# Altium footprint library WANGYU92100PcbLib.PcbLib: 392 footprints (part 20 of 25)
Each footprint in its own frame and in the unit in brackets; x right, y up, seen from the top. Pads: shape width x height; smd on the part's side, far side on the other; paste and mask are expansions set on the pad; w line width, h text height; cw(c..) or ccw(c..) is an arc to the next point about the centre after c.
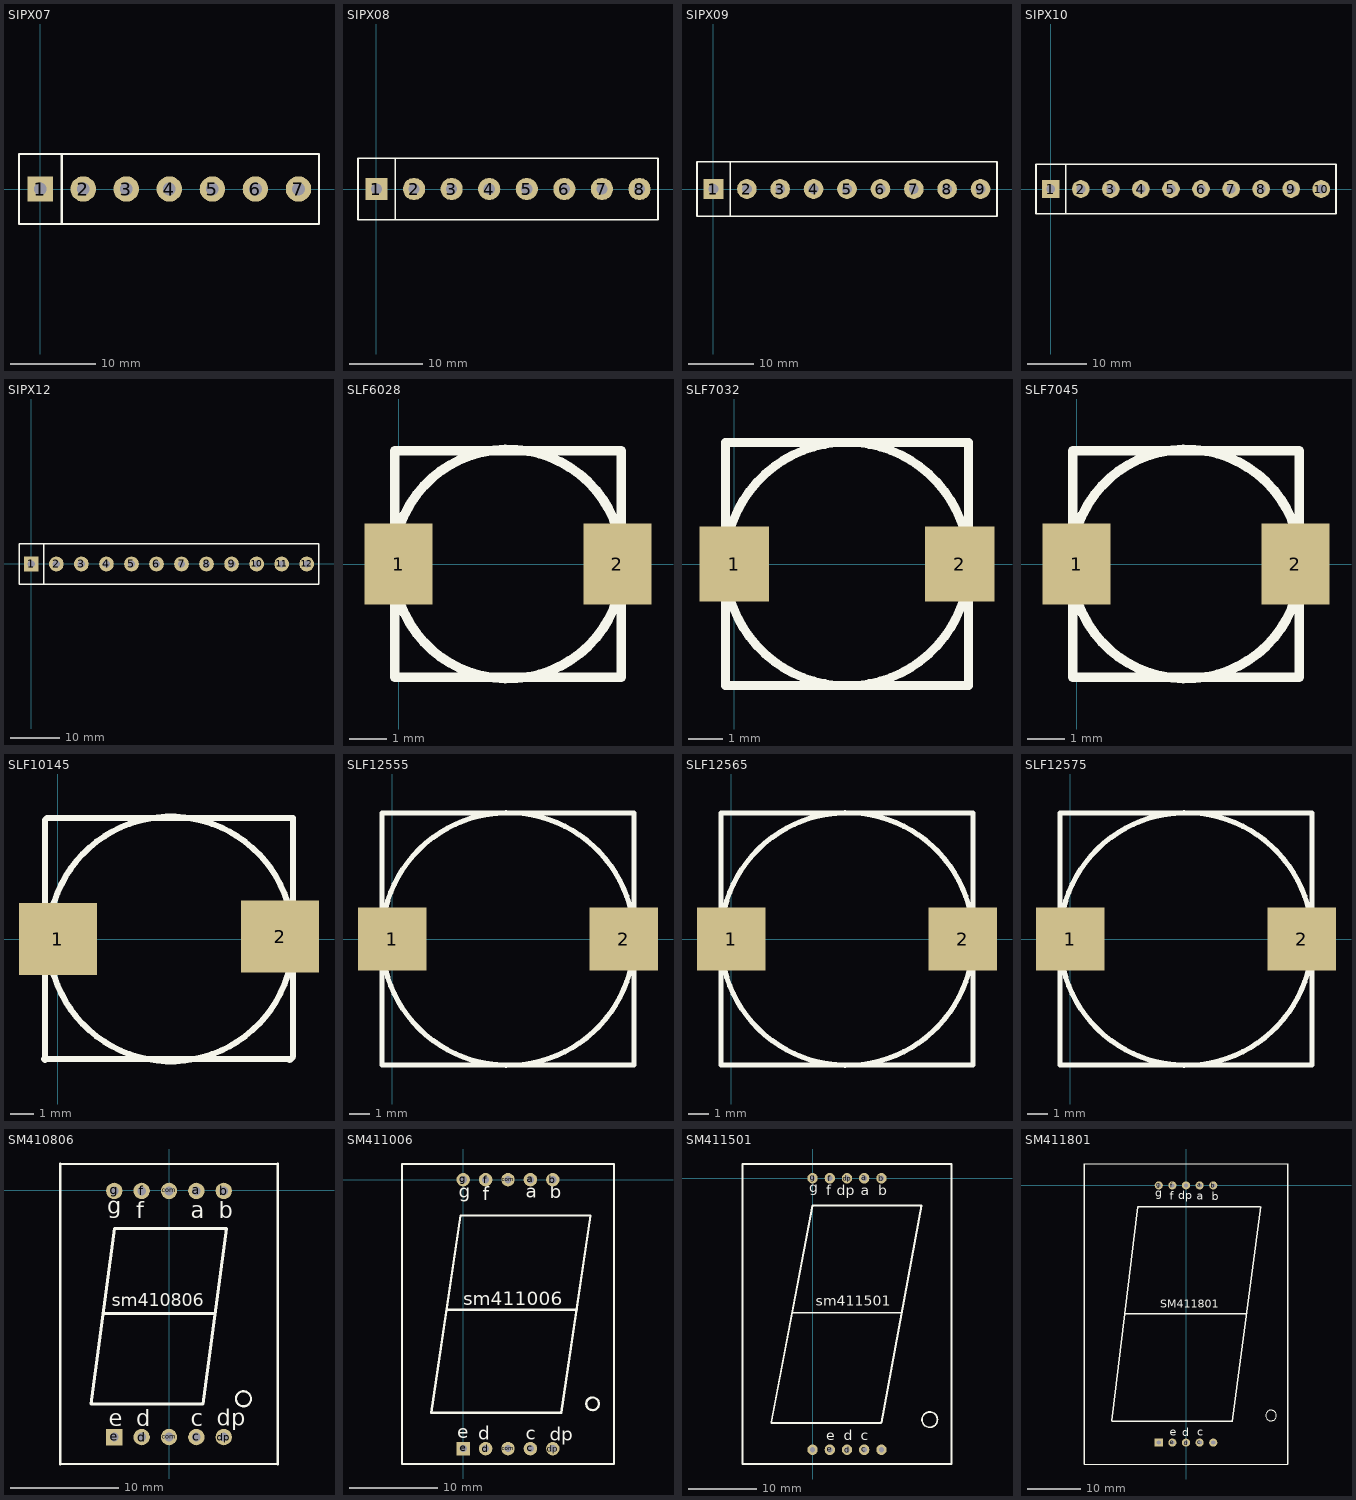
[diagram p19: the footprints below, top view; thin cyan lines are the x and y axes]

## SIPX07 [mm]
pads (7):
  rect 3x3 hole 1.5: 1(0,0)
  round 3 hole 1.5: 2(5.08,0) 3(10.16,0) 4(15.24,0) 5(20.32,0) 6(25.4,0) 7(30.48,0)
Top Overlay:
  lines w0.254: 2.54,-4.15 2.54,4.15 ; -2.5,-4.15 32.9,-4.15 32.9,4.15 -2.5,4.15 -2.5,-4.15

## SIPX08 [mm]
pads (8):
  rect 3x3 hole 1.5: 1(0,0)
  round 3 hole 1.5: 2(5.08,0) 3(10.16,0) 4(15.24,0) 5(20.32,0) 6(25.4,0) 7(30.48,0) 8(35.56,0)
Top Overlay:
  lines w0.254: 2.54,-4.15 2.54,4.15 ; -2.5,-4.15 38.06,-4.15 38.06,4.15 -2.5,4.15 -2.5,-4.15

## SIPX09 [mm]
pads (9):
  rect 3x3 hole 1.5: 1(0,0)
  round 3 hole 1.5: 2(5.08,0) 3(10.16,0) 4(15.24,0) 5(20.32,0) 6(25.4,0) 7(30.48,0) 8(35.56,0) 9(40.64,0)
Top Overlay:
  lines w0.254: 2.54,-4.15 2.54,4.15 ; -2.5,-4.15 -2.5,4.15 43.14,4.15 43.14,-4.15 -2.5,-4.15

## SIPX10 [mm]
pads (10):
  rect 3x3 hole 1.5: 1(0,0)
  round 3 hole 1.5: 2(5.08,0) 3(10.16,0) 4(15.24,0) 5(20.32,0) 6(25.4,0) 7(30.48,0) 8(35.56,0) 9(40.64,0) 10(45.72,0)
Top Overlay:
  lines w0.254: 2.54,-4.15 2.54,4.15 ; -2.5,-4.15 -2.5,4.15 48.22,4.15 48.22,-4.15 -2.5,-4.15

## SIPX12 [mm]
pads (12):
  rect 3x3 hole 1.5: 1(0,0)
  round 3 hole 1.5: 2(5.08,0) 3(10.16,0) 4(15.24,0) 5(20.32,0) 6(25.4,0) 7(30.48,0) 8(35.56,0) 9(40.64,0) 10(45.72,0) 11(50.8,0) 12(55.88,0)
Top Overlay:
  lines w0.254: 2.54,-4.15 2.54,4.15 ; -2.5,-4.15 58.38,-4.15 58.38,4.15 -2.5,4.15 -2.5,-4.15

## SLF6028 [mm]
pads (2):
  rect 1.8x2.15 smd: 1(0,0) 2(5.8,0)
Top Overlay:
  circle w0.254: c2.9,0 r3.041
  lines w0.254: -0.1,-3 -0.1,3 5.9,3 5.9,-3 -0.1,-3

## SLF7032 [mm]
pads (2):
  rect 2x2.15 smd: 1(0,0) 2(6.5,0)
Top Overlay:
  circle w0.254: c3.25,0 r3.509
  lines w0.254: -0.25,-3.5 6.75,-3.5 6.75,3.5 -0.25,3.5 -0.25,-3.5

## SLF7045 [mm]
pads (2):
  rect 1.8x2.15 smd: 1(0,0) 2(5.8,0)
Top Overlay:
  circle w0.254: c2.9,0 r3.041
  lines w0.254: -0.1,-3 5.9,-3 5.9,3 -0.1,3 -0.1,-3

## SLF10145 [mil]
pads (2):
  rect 130x120 smd: 1(0,0) 2(370.08,3.94)
Top Overlay:
  circle w10: c188.04,0 r204.01
  lines w10: -22.96,-200 385.04,-200 ; -21.96,-202 -21.96,0 ; -21.96,-12 -21.96,198 -17.96,202 392.04,202 392.04,-196 ; 392.04,-196 386.04,-202 392.04,-196

## SLF12555 [mm]
pads (2):
  rect 3.4x3.15 smd: 1(0,0) 2(11.5,0)
Top Overlay:
  circle w0.254: c5.75,0 r6.27
  lines w0.254: -0.5,-6.25 -0.5,6.25 12,6.25 12,-6.25 -0.5,-6.25

## SLF12565 [mm]
pads (2):
  rect 3.4x3.15 smd: 1(0,0) 2(11.5,0)
Top Overlay:
  circle w0.254: c5.75,0 r6.27
  lines w0.254: -0.5,-6.25 -0.5,6.25 12,6.25 12,-6.25 -0.5,-6.25

## SLF12575 [mm]
pads (2):
  rect 3.4x3.15 smd: 1(0,0) 2(11.5,0)
Top Overlay:
  circle w0.254: c5.75,0 r6.27
  lines w0.254: -0.5,-6.25 12,-6.25 12,6.25 -0.5,6.25 -0.5,-6.25

## SM410806 [mil]
pads (10):
  round 60 hole 32: a(100,-3) b(200,-3) c(100,-903) com(0,-903) com(0,-3) d(-100,-903) dp(200,-903) f(-100,-3) g(-200,-3)
  rect 60x60 hole 32: e(-200,-903)
Top Overlay:
  circle w8: c272.44,-763 r27.56
  lines w8: -397.64,-1001.42 397.64,-1001.42 ; -397.64,95.42 397.64,95.42 ; -242.2,-447.37 -238.26,-451.31 ; 167.25,-451.31 171.19,-447.37
  lines w10: -397.64,-1001.42 -397.64,95.42 ; -238.26,-451.31 167.25,-451.31 ; 397.64,-1001.42 397.64,95.42 ; -285.5,-782.02 123.94,-782.02 210.56,-140.28 -198.89,-140.28 -285.5,-782.02
  text "sm410806" at -210,-425 h47.24
  text "g" at -225.87,-86.3 h60
  text "f" at -120,-103 h60
  text "a" at 80,-103 h60
  text "b" at 181,-103 h60
  text "e" at -220,-863 h60
  text "dp" at 174,-861 h60
  text "c" at 80,-863 h60
  text "d" at -120,-863 h60

## SM411006 [mil]
pads (10):
  round 60 hole 32: a(299.87,-0.44) b(399.87,-0.44) c(299.87,-1200.52) com(199.87,-1200.52) com(199.87,-0.44) d(99.87,-1200.52) dp(399.87,-1200.52) f(99.87,-0.44) g(-0.13,-0.44)
  rect 60x60 hole 32: e(-0.13,-1200.52)
Top Overlay:
  circle w10: c577.43,-1000.52 r28.28
  lines w10: -72.57,-580.52 507.43,-580.52 ; 199.87,69.48 -272.57,69.48 ; -272.57,69.48 672.32,69.48 ; -272.57,69.48 -272.57,-1269.1 672.32,-1269.1 ; 672.31,-1269.1 672.31,69.48 ; 672.32,-1269.1 672.32,69.48 ; -142.57,-1040.52 437.43,-1040.52 567.43,-160.52 -12.57,-160.52 -142.57,-1040.52
  text "e" at -26,-1154 h60
  text "g" at -20,-80 h60
  text "f" at 88,-92 h60
  text "a" at 280,-82 h60
  text "b" at 386,-84 h60
  text "dp" at 386,-1166 h60
  text "c" at 278,-1160 h60
  text "d" at 68,-1162 h60
  text "sm411006" at 0,-560 h60

## SM411501 [mil]
pads (10):
  round 60 hole 31.5: a(300,0) b(400,0) c(300,-1574.8) com(0,-1574.8) com(400,-1574.8) d(200,-1574.8) dp(200,0) e(100,-1574.8) f(100,0) g(0,0)
Top Overlay:
  circle w10: c680,-1400 r44.72
  lines w10: -240.07,-1417.32 0,-157.48 632.22,-157.48 400,-1417.32 ; -240,-1420 397.32,-1420 ; -112.99,-780 520,-780 ; -406.3,-1657.48 806.3,-1657.48 806.3,82.68 -406.3,82.68 -406.3,-1657.48
  text "sm411501" at 20,-740 h60
  text "b" at 380,-100 h60
  text "a" at 280,-100 h60
  text "dp" at 140,-100 h60
  text "e" at 80,-1520 h60
  text "d" at 180,-1520 h60
  text "c" at 280,-1520 h60
  text "g" at -20,-80 h60
  text "f" at 80,-100 h60

## SM411801 [mil]
pads (10):
  round 60 hole 32: a(100,0) b(200,0) c(100,-1889.76) com(200,-1889.76) d(0,-1889.76) dp(0,0) e(-100,-1889.76) f(-100,0) g(-200,0)
  rect 60x60 hole 32: com(-200,-1889.76)
Top Overlay:
  circle w8: c624.63,-1691 r39.37
  lines w8: -748.03,-2047.24 748.03,-2047.24 ; -748.03,157.48 748.03,157.48
  lines w10: -748.03,-2047.24 -748.03,157.48 ; -545,-1732.28 342.52,-1732.28 ; -545,-1728 -355.02,-157.48 544.2,-157.48 ; -451,-943 445,-943 ; 341.23,-1732.28 549,-157.48 ; 748.03,-2047.24 748.03,157.48
  text "SM411801" at -190,-900 h59.05
  text "d" at -27,-1843 h60
  text "c" at 83,-1838 h60
  text "dp" at -58,-100 h60
  text "e" at -121,-1838 h60
  text "b" at 188,-110 h60
  text "a" at 78,-105 h60
  text "f" at -121,-105 h60
  text "g" at -226,-84 h60